# Altium footprint library PcbLib1.PcbLib: 29 footprints (part 1 of 2)
Each footprint in its own frame and in the unit in brackets; x right, y up, seen from the top. Pads: shape width x height; smd on the part's side, far side on the other; paste and mask are expansions set on the pad; w line width, h text height; cw(c..) or ccw(c..) is an arc to the next point about the centre after c.
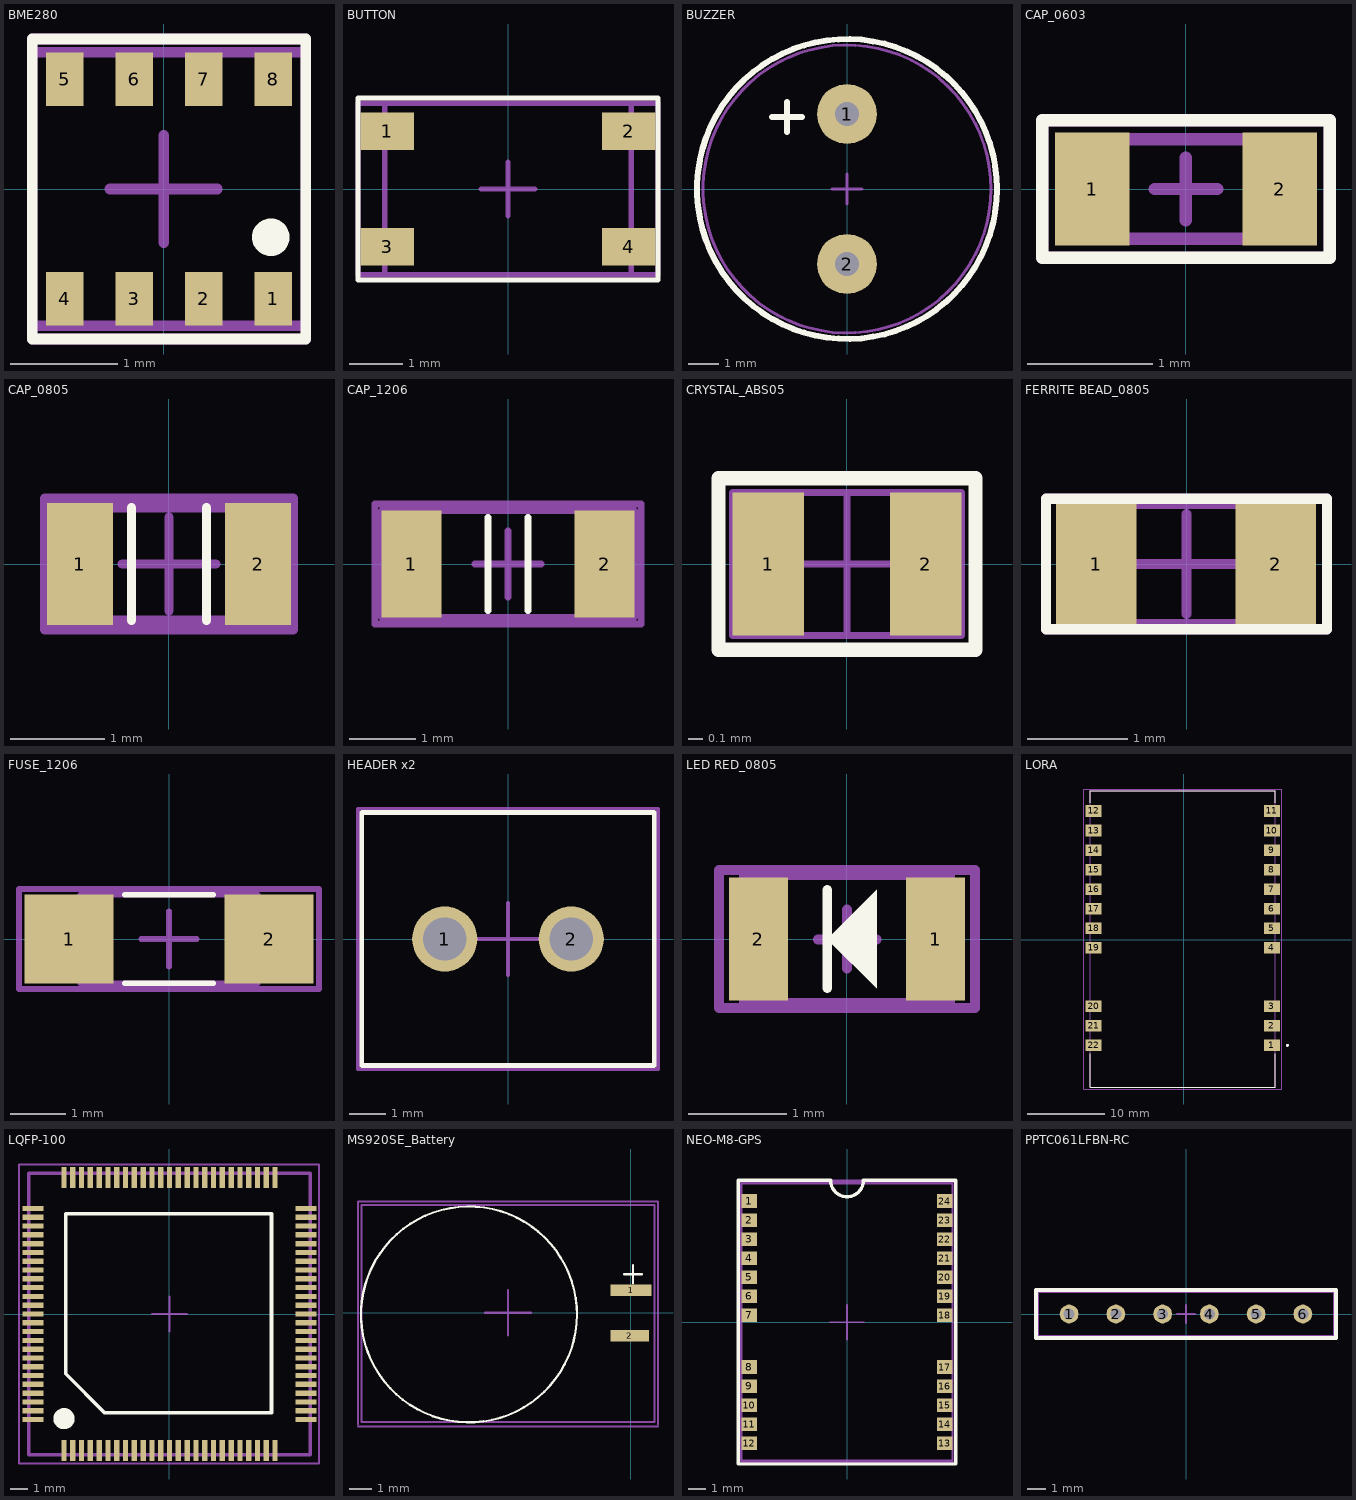
[diagram p0: the footprints below, top view; thin cyan lines are the x and y axes]

## BME280 [mm]
pads (8):
  rect 0.35x0.5 smd mask+0.05: 1(1.025,-1.025) 2(0.375,-1.025) 3(-0.275,-1.025) 4(-0.925,-1.025) 5(-0.925,1.025) 6(-0.275,1.025) 7(0.375,1.025) 8(1.025,1.025)
Top Overlay:
  circle w0.2: c1,-0.45 r0.075
  lines w0.1: -1.225,-1.4 -1.225,1.4 1.325,1.4 1.325,-1.4 -1.225,-1.4
Top 3D Body:
  lines w0.1: -1.225,-1.275 -1.225,1.275 1.325,1.275 1.325,-1.275 -1.225,-1.275
Top Component Center:
  lines w0.1: -0.5,0 0.5,0 ; 0,-0.5 0,0.5 ; -1.225,-1.4 1.325,-1.4 ; -1.225,-1.4 -1.225,1.4 ; -1.225,-1.4 1.325,-1.4 ; -1.225,-1.4 -1.225,1.4 ; -1.225,1.4 1.325,1.4 ; -1.225,1.4 1.325,1.4 ; 1.325,-1.4 1.325,1.4 ; 1.325,-1.4 1.325,1.4
Top Designator:
  text "'.Designator'" at -1.95,-0.5 h0.6
3D body "User Library-BME280-1.step": height 0.94, standoff 0.01, extent -1.2,-1.25 1.3,1.25

## BUTTON [mm]
pads (4):
  rect 1x0.7 smd mask+0.05: 1(-2.25,1.075) 2(2.25,1.075) 3(-2.25,-1.075) 4(2.25,-1.075)
Top Overlay:
  lines w0.1: -2.8,-1.7 2.8,-1.7 2.8,1.7 -2.8,1.7 -2.8,-1.7
Top 3D Body:
  lines w0.1: -2.3,-1.6 2.3,-1.6 2.3,1.6 -2.3,1.6 -2.3,-1.6
Top Component Center:
  lines w0.1: -0.5,0 0.5,0 ; 0,-0.5 0,0.5 ; -2.8,-1.6 -2.8,1.6 2.8,1.6 2.8,-1.6 -2.8,-1.6
Top Designator:
  lines w0.1: -2.8,-1.6 -2.8,1.6 2.8,1.6 2.8,-1.6 -2.8,-1.6
  text "'.Designator'" at -3.4,-0.7 h0.8
3D body "PTS815SJG250SMTRLFS.stp": height 2.5, standoff 0, extent -2.25,-1.6 2.25,1.6

## BUZZER [mm]
pads (2):
  round 2 hole 0.8 mask+0.05: 1(0,2.5) 2(0,-2.5)
Top Overlay:
  circle w0.2: c0,0 r5
  lines w0.2: -2.5,2.4 -1.5,2.4 ; -2,1.9 -2,2.9
Top Component Center:
  circle w0.1: c0,0 r4.8
  lines w0.1: -0.5,0 0.5,0 ; 0,-0.5 0,0.5
Top Designator:
  text "'.Designator'" at -5.525,-0.675 h1
3D body: height 5.1, standoff 0.1, extent -4.8,-4.797 4.8,4.797
3D body: height 0.15, standoff -5.35, extent -0.299,2.201 0.299,2.799
3D body: height 0.15, standoff -3.85, extent -0.299,-2.799 0.299,-2.201

## CAP_0603 [mm]
pads (2):
  rect 0.6x0.9 smd mask+0.05: 1(-0.75,0) 2(0.75,0)
Top Overlay:
  lines w0.1: -1.15,-0.55 1.15,-0.55 1.15,0.55 -1.15,0.55 -1.15,-0.55
Top 3D Body:
  lines w0.1: -0.8,-0.4 -0.8,0.4 0.8,0.4 0.8,-0.4 -0.8,-0.4
Top Component Center:
  lines w0.1: -0.25,0 0.25,0 ; 0,-0.25 0,0.25 ; -1.15,-0.55 -1.15,0.55 1.15,0.55 1.15,-0.55 -1.15,-0.55
Top Designator:
  lines w0.1: -1.15,-0.55 1.15,-0.55 1.15,0.55 -1.15,0.55 -1.15,-0.55
  text "'.Designator'" at -1.15,-0.55 h0.5
3D body "CAPC0603 v1.step": height 0.5, standoff 0, extent -0.8,-0.4 0.8,0.4

## CAP_0805 [mm]
pads (2):
  rect 0.7x1.3 smd mask+0.05: 1(-0.95,0) 2(0.95,0)
Top Overlay:
  lines w0.1: -0.4,-0.6 -0.4,0.6 ; 0.4,-0.6 0.4,0.6
Top 3D Body:
  lines w0.1: -1,-0.6 1,-0.6 1,0.6 -1,0.6 -1,-0.6
Top Component Center:
  lines w0.1: -0.5,0 0.5,0 ; 0,-0.5 0,0.5 ; -1.325,-0.7 -1.325,0.7 1.325,0.7 1.325,-0.7 -1.325,-0.7
Top Designator:
  lines w0.1: -1.3,-0.65 1.3,-0.65 1.3,0.65 -1.3,0.65 -1.3,-0.65
  text "'.Designator'" at -1.3,-0.5 h0.5
3D body "CAPC0805 v2.step": height 1, standoff 0, extent -1,-0.6 1,0.6

## CAP_1206 [mm]
pads (2):
  rect 0.9x1.6 smd mask+0.05: 1(-1.45,0) 2(1.45,0)
Top Overlay:
  lines w0.1: -0.3,-0.7 -0.3,0.7 ; 0.3,-0.7 0.3,0.7
Top 3D Body:
  lines w0.1: -1.6,-0.8 -1.6,0.8 1.6,0.8 1.6,-0.8 -1.6,-0.8
Top Component Center:
  lines w0.1: -0.5,0 0.5,0 ; 0,-0.5 0,0.5 ; -2,-0.9 2,-0.9 2,0.9 -2,0.9 -2,-0.9
Top Designator:
  lines w0.1: -1.9,-0.8 1.9,-0.8 1.9,0.8 -1.9,0.8 -1.9,-0.8
  text "'.Designator'" at -2,-0.5 h0.5
3D body "CAPC1206 v2.step": height 1, standoff 0, extent -1.6,-0.8 1.6,0.8

## CRYSTAL_ABS05 [mm]
pads (2):
  rect 0.5x1 smd mask+0.05: 1(-0.55,0) 2(0.55,0)
Top Overlay:
  lines w0.1: -0.9,-0.6 0.9,-0.6 0.9,0.6 -0.9,0.6 -0.9,-0.6
Top 3D Body:
  lines w0.05: -0.8,-0.5 0.8,-0.5 0.8,0.5 -0.8,0.5 -0.8,-0.5
Top Component Center:
  lines w0.05: -0.5,0 0.5,0 ; 0,-0.5 0,0.5 ; -0.9,-0.6 0.9,-0.6 0.9,0.6 -0.9,0.6 -0.9,-0.6
Top Designator:
  lines w0.05: -0.9,-0.6 -0.9,0.6 0.9,0.6 0.9,-0.6 -0.9,-0.6
  text "'.Designator'" at -1.4,-0.4 h0.4
3D body "ABS05-32.768KHZ-T--3DModel-STEP-400430.STEP": height 0.52, standoff 0.01, extent -0.8,-0.5 0.8,0.5

## FERRITE BEAD_0805 [mm]
pads (2):
  rect 0.8x1.2 smd mask+0.05: 1(-0.9,0) 2(0.889,0)
Top Overlay:
  lines w0.1: -1.4,-0.65 1.4,-0.65 1.4,0.65 -1.4,0.65 -1.4,-0.65
Top 3D Body:
  lines w0.1: -1,-0.6 1,-0.6 1,0.6 -1,0.6 -1,-0.6
Top Component Center:
  lines w0.1: -0.5,0 0.5,0 ; 0,-0.5 0,0.5 ; -1.4,-0.65 1.4,-0.65 1.4,0.65 -1.4,0.65 -1.4,-0.65
Top Designator:
  lines w0.1: -1.4,-0.65 1.4,-0.65 1.4,0.65 -1.4,0.65 -1.4,-0.65
  text "'.Designator'" at -2,-0.5 h0.6
3D body "ferrite_bead_0805.STEP": height 0.91, standoff 0.01, extent -1,-0.6 1,0.6

## FUSE_1206 [mm]
pads (2):
  rect 1.6x1.6 smd mask+0.05: 1(-1.8,0) 2(1.8,0)
Top Overlay:
  lines w0.1: -0.8,-0.8 0.8,-0.8 ; -0.8,0.8 0.8,0.8
Top 3D Body:
  lines w0.1: -1.6,-0.8 -1.6,0.8 1.6,0.8 1.6,-0.8 -1.6,-0.8
Top Component Center:
  lines w0.1: -0.5,0 0.5,0 ; 0,-0.5 0,0.5 ; -2.7,-0.9 -2.7,0.9 2.7,0.9 2.7,-0.9 -2.7,-0.9
Top Designator:
  lines w0.1: -2.7,-0.9 -2.7,0.9 2.7,0.9 2.7,-0.9 -2.7,-0.9
  text "'.Designator'" at -2.2,-0.8 h0.8
3D body "e_0100.3479_003.step": height 0.6, standoff -0.04, extent -1.612,-0.8 1.612,0.8

## HEADER x2 [mm]
pads (2):
  round 1.8 hole 1.2: 1(-1.75,0) 2(1.75,0)
Top Overlay:
  lines w0.127: -4.05,-3.5 -4.05,3.5 4.05,3.5 4.05,-3.5 -4.05,-3.5
Top Component Center:
  lines w0.1: -1,0 1,0 ; 0,-1 0,1 ; -4.15,-3.6 -4.15,3.6 4.15,3.6 4.15,-3.6 -4.15,-3.6
Top Designator:
  lines w0.1: -4.15,-3.6 4.15,-3.6 4.15,3.6 -4.15,3.6 -4.15,-3.6
  text "'.Designator'" at -4.875,-1.05 h1
3D body "OSTTE020104--3DModel-STEP-56544.STEP": height 8.31, standoff -3.89, extent -4.025,-3.45 3.975,3.55

## LED RED_0805 [mm]
pads (2):
  rect 0.6x1.25 smd mask+0.05: 1(0.9,0) 2(-0.9,0)
Top Overlay:
  region: 0.3,0.5 0.3,-0.5 -0.2,0
  lines w0.1: -0.2,-0.5 -0.2,0.5
Top 3D Body:
  lines w0.1: -1.05,-0.65 -1.05,0.65 1.05,0.65 1.05,-0.65 -1.05,-0.65
Top Component Center:
  lines w0.1: -0.297,-0.005 0.303,-0.005 ; 0,-0.3 0,0.3 ; -1.3,-0.7 -1.3,0.7 1.3,0.7 1.3,-0.7 -1.3,-0.7
Top Designator:
  lines w0.1: -1.3,-0.7 1.3,-0.7 ; -1.3,-0.7 -1.3,0.7 ; -1.3,-0.7 1.3,-0.7 ; -1.3,-0.7 -1.3,0.7 ; -1.3,0.7 1.3,0.7 ; -1.3,0.7 1.3,0.7 ; 1.3,-0.7 1.3,0.7 ; 1.3,-0.7 1.3,0.7
  text "'.Designator'" at -1.6,-0.8 h0.7
3D body "everlight-17-21-0805LED-red.step": height 1.12, standoff 0.01, extent -1,-0.625 1,0.625

## LORA [mm]
pads (22):
  rect 2.08x1.51 smd: 1(11.475,-13.72) 2(11.475,-11.18) 3(11.475,-8.64) 4(11.475,-1.04) 5(11.475,1.5) 6(11.475,4.04) 7(11.475,6.58) 8(11.475,9.12) 9(11.475,11.66) 10(11.475,14.2) 11(11.475,16.74) 12(-11.675,16.74) 13(-11.675,14.2) 14(-11.675,11.66) 15(-11.675,9.12) 16(-11.675,6.58) 17(-11.675,4.04) 18(-11.675,1.5) 19(-11.675,-1.04) 20(-11.675,-8.64) 21(-11.675,-11.18) 22(-11.675,-13.72)
Top Overlay:
  circle w0.2: c13.515,-13.72 r0.1
  lines w0.127: -12.1,-14.795 -12.1,-19.15 11.9,-19.15 11.9,-14.795 ; -12.1,17.815 -12.1,19.35 11.9,19.35 11.9,17.815
Mechanical 13:
  circle w0.2: c13.515,-13.72 r0.1
  lines w0.127: -12.1,-19.15 -12.1,19.35 11.9,19.35 11.9,-19.15 -12.1,-19.15
Mechanical 15:
  lines w0.05: -12.965,-19.4 12.765,-19.4 12.765,19.6 -12.965,19.6 -12.965,-19.4
3D body "step_temp.STEP": height 3.89, standoff 0.01, extent -12.01,-19.293 12.01,19.207

## LQFP-100 [mm]
pads (100):
  rect 0.3x1.2 smd mask+0.05: 1(-5.995,-7.75) 2(-5.495,-7.75) 3(-4.995,-7.75) 4(-4.495,-7.75) 5(-3.995,-7.75) 6(-3.495,-7.75) 7(-2.995,-7.75) 8(-2.495,-7.75) 9(-1.995,-7.75) 10(-1.495,-7.75) 11(-0.995,-7.75) 12(-0.495,-7.75) 13(0.005,-7.75) 14(0.505,-7.75) 15(1.005,-7.75) 16(1.505,-7.75) 17(2.005,-7.75) 18(2.505,-7.75) 19(3.005,-7.75) 20(3.505,-7.75) 21(4.005,-7.75) 22(4.505,-7.75) 23(5.005,-7.75) 24(5.505,-7.75) 25(6.005,-7.75) 51(6.005,7.75) 52(5.505,7.75) 53(5.005,7.75) 54(4.505,7.75) 55(4.005,7.75) 56(3.505,7.75) 57(3.005,7.75) 58(2.505,7.75) 59(2.005,7.75) 60(1.505,7.75) 61(1.005,7.75) 62(0.505,7.75) 63(0.005,7.75) 64(-0.495,7.75) 65(-0.995,7.75) 66(-1.495,7.75) 67(-1.995,7.75) 68(-2.495,7.75) 69(-2.995,7.75) 70(-3.495,7.75) 71(-3.995,7.75) 72(-4.495,7.75) 73(-4.995,7.75) 74(-5.495,7.75) 75(-5.995,7.75)
  rect 1.2x0.3 smd mask+0.05: 26(7.755,-6) 27(7.755,-5.5) 28(7.755,-5) 29(7.755,-4.5) 30(7.755,-4) 31(7.755,-3.5) 32(7.755,-3) 33(7.755,-2.5) 34(7.755,-2) 35(7.755,-1.5) 36(7.755,-1) 37(7.755,-0.5) 38(7.755,0) 39(7.755,0.5) 40(7.755,1) 41(7.755,1.5) 42(7.755,2) 43(7.755,2.5) 44(7.755,3) 45(7.755,3.5) 46(7.755,4) 47(7.755,4.5) 48(7.755,5) 49(7.755,5.5) 50(7.755,6) 76(-7.755,6) 77(-7.755,5.5) 78(-7.755,5) 79(-7.755,4.5) 80(-7.755,4) 81(-7.755,3.5) 82(-7.755,3) 83(-7.755,2.5) 84(-7.755,2) 85(-7.755,1.5) 86(-7.755,1) 87(-7.755,0.5) 88(-7.755,0) 89(-7.755,-0.5) 90(-7.755,-1) 91(-7.755,-1.5) 92(-7.755,-2) 93(-7.755,-2.5) 94(-7.755,-3) 95(-7.755,-3.5) 96(-7.755,-4) 97(-7.755,-4.5) 98(-7.755,-5) 99(-7.755,-5.5) 100(-7.755,-6)
Top Overlay:
  circle w0.8: c-5.995,-5.95 r0.2
  lines w0.2: -5.9,-3.4 -3.7,-5.6 5.8,-5.6 5.8,5.7 -5.9,5.7 -5.9,-3.4
Top 3D Body:
  lines w0.2: -8,-8 8,-8 8,8 -8,8 -8,-8
Top Component Center:
  lines w0.1: -1,0 1,0 ; 0,-1 0,1 ; -8.55,-8.5 -8.55,6.15 -8.55,8.5 8.5,8.5 8.5,-8.5 -8.55,-8.5
Top Designator:
  lines w0.1: -8.55,-8.5 -8.55,6.15 -8.55,8.5 8.5,8.5 8.5,-8.5 -8.55,-8.5
  text "'.Designator'" at -8.7,-1.8 h2
3D body "STM32F407VGT6.STEP": height 1.6, standoff 0, extent -7.995,-8 8.005,8

## MS920SE_Battery [mm]
pads (2):
  rect 1.8x0.5 smd mask+0.05: 1(0.013,1)
  rect 1.7x0.5 smd mask+0.05: 2(-0.037,-1)
Top Overlay:
  lines w0.1: -2.604,1.411 ccw(c-7.117,-0.069) -2.6,1.4 ; -0.3,1.7 0.5,1.7 ; 0.1,1.3 0.1,2.1
Top 3D Body:
  lines w0.1: -11.85,-4.8 -11.85,4.75 1.05,4.75 1.05,-4.8 -11.85,-4.8
Top Component Center:
  lines w0.1: -12,-5 1.2,-5 ; -12,-4.9 -12,4.9 1.2,4.9 1.2,-0.5 1.2,-4.9 ; -6.4,0 -4.4,0 ; -5.4,-1 -5.4,1
Top Designator:
  lines w0.1: -12,-5 1.2,-5 ; -12,-4.9 -12,4.9 1.2,4.9 1.2,-0.5 1.2,-4.9
  text "'.Designator'" at -12.5,-1.5 h1.5
3D body "MS920SE-FL27E--3DModel-STEP-56544.STEP": height 2.86, standoff 0.01, extent -11.8,-4.8 1,4.7

## NEO-M8-GPS [mm]
pads (24):
  rect 0.9x0.8 smd mask+0.05: 1(-5.65,7) 2(-5.65,5.9) 3(-5.65,4.8) 4(-5.65,3.7) 5(-5.65,2.6) 6(-5.65,1.5) 7(-5.65,0.4) 8(-5.65,-2.6) 9(-5.65,-3.7) 10(-5.65,-4.8) 11(-5.65,-5.9) 12(-5.65,-7) 13(5.65,-7) 14(5.65,-5.9) 15(5.65,-4.8) 16(5.65,-3.7) 17(5.65,-2.6) 18(5.65,0.4) 19(5.65,1.5) 20(5.65,2.6) 21(5.65,3.7) 22(5.65,4.8) 23(5.65,5.9) 24(5.65,7)
Top Overlay:
  lines w0.2: -6.3,-8.2 6.3,-8.2 6.3,8.2 0.949,8.2 cw(c0,8.2) -0.949,8.2 -6.3,8.2 -6.3,-8.2
Top 3D Body:
  lines w0.1: -6.1,-8 -6.1,8 6.1,8 6.1,-8 -6.1,-8
Top Component Center:
  lines w0.1: -1,0 1,0 ; 0,-1 0,1 ; -6.3,-8.2 -6.3,8.2 6.3,8.2 6.3,-8.2 -6.3,-8.2
Top Designator:
  lines w0.1: -6.2,-8.1 6.3,-8.1 6.3,8.1 -6.2,8.1 -6.2,-8.1
  text "'.Designator'" at -8.2,-1.6 h2
3D body "User Library-NEO-M8Q.step": height 2.39, standoff 0.01, extent -6.1,-8 6.1,8

## PPTC061LFBN-RC [mm]
pads (6):
  round 1.02 hole 0.6 mask+0.05: 1(-6.35,0) 2(-3.81,0) 3(-1.27,0) 4(1.27,0) 5(3.81,0) 6(6.35,0)
Top Overlay:
  lines w0.2: -8.15,-1.3 8.15,-1.3 8.15,1.3 -8.15,1.3 -8.15,-1.3
Top 3D Body:
  lines w0.1: -8.05,-1.2 8.05,-1.2 8.05,1.2 -8.05,1.2 -8.05,-1.2
Top Component Center:
  lines w0.1: -0.5,0 0.5,0 ; 0,-0.5 0,0.5 ; -8.1,-1.3 -8.1,1.3 8.1,1.3 8.1,-1.3 -8.1,-1.3
Top Designator:
  lines w0.1: -8.1,-1.3 -8.1,1.3 8.1,1.3 8.1,-1.3 -8.1,-1.3
  text "'.Designator'" at -5.8,-0.9 h1
3D body "HEADER6PFEM.stp": height 8.3, standoff -3.2, extent -8.05,-1.2 8.05,1.2